# Altium integrated library TI_Logic_Specialty_Logic.IntLib: 2504 symbols (part 66 of 81)
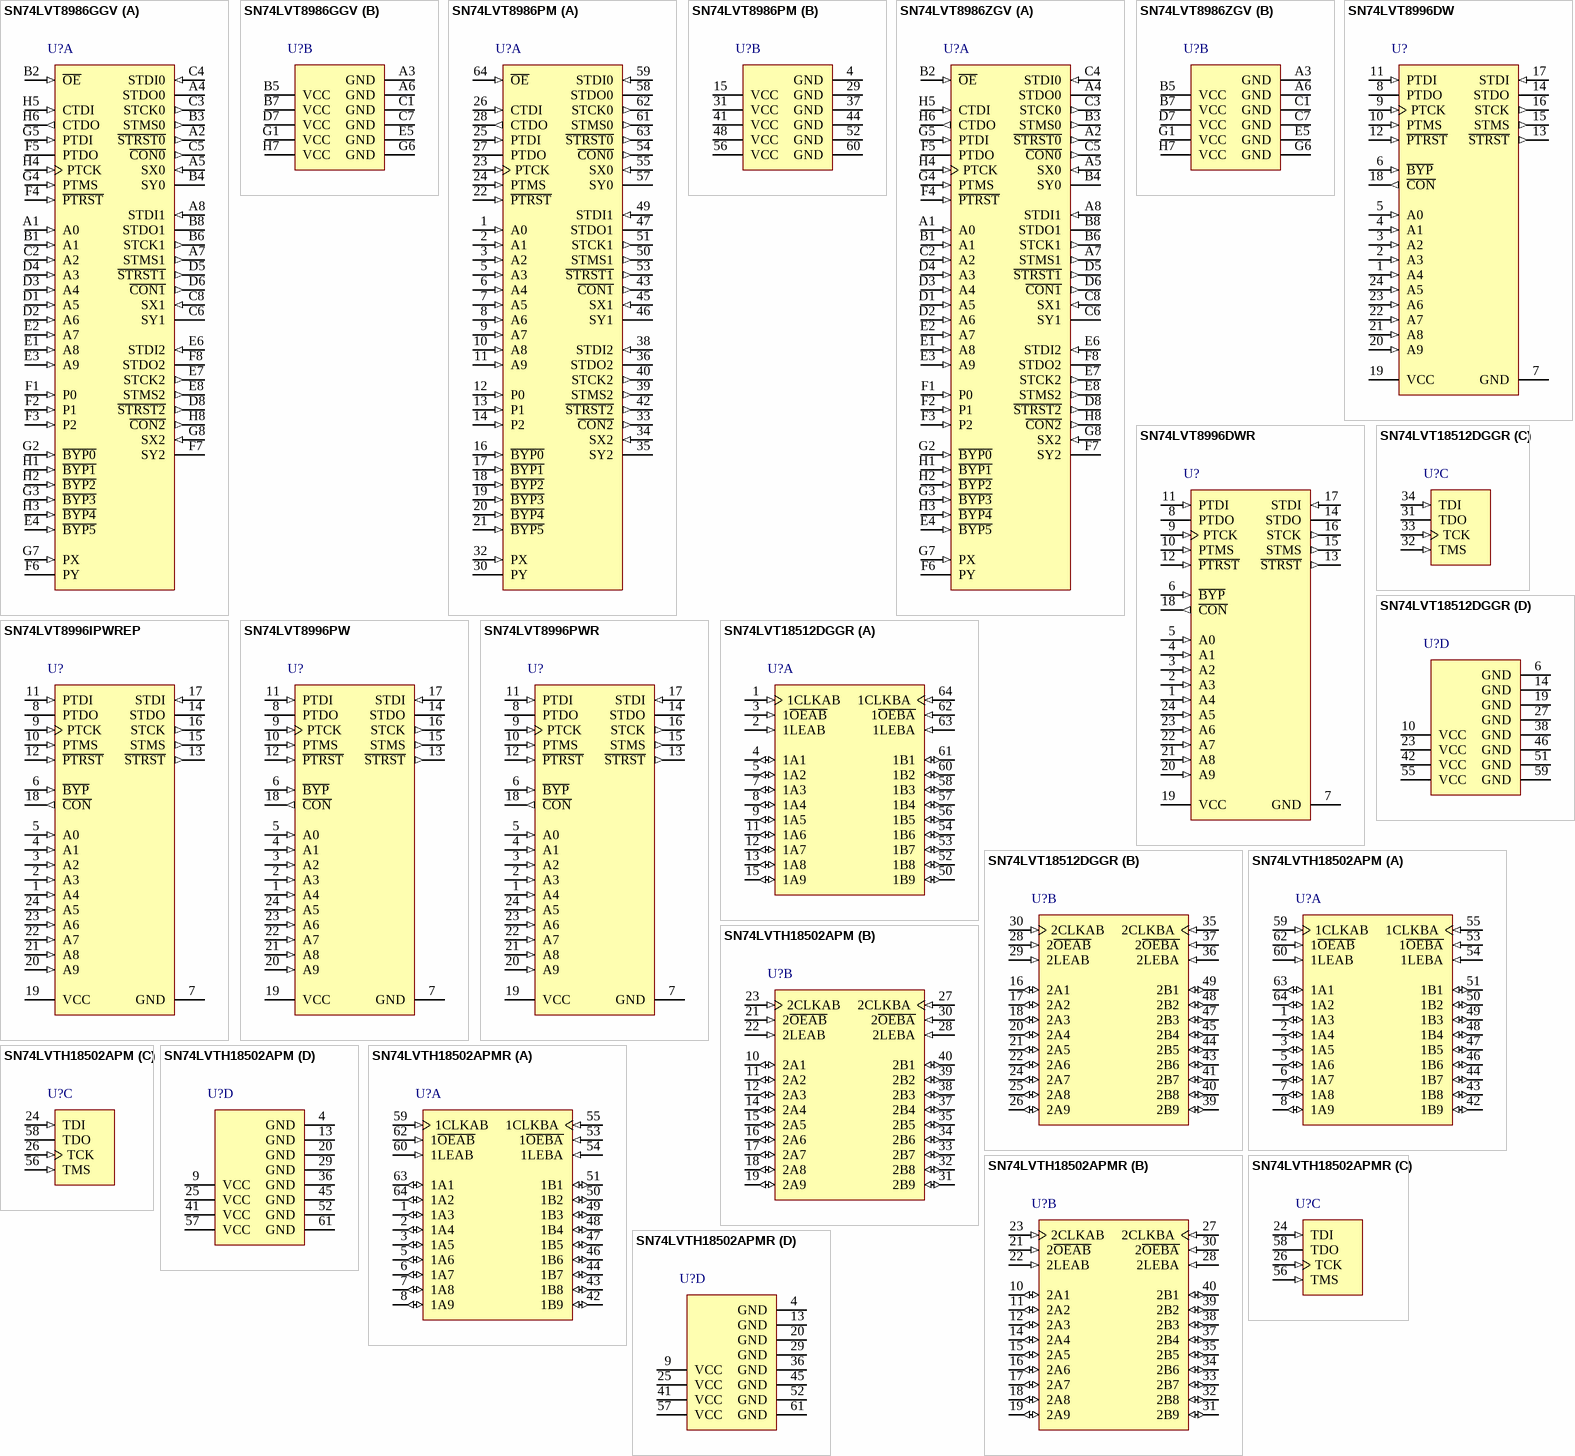
[diagram p169: symbols SN74LVT8986GGV to SN74LVTH18502APMR]

## SN74LVT8996DWR
designator U?
3.3-V ABT 10-Bit Addressable Scan Ports Multidrop-Addressable IEEE STD 1149.1 (JTAG) TAP Transceiver, DW0024A, LARGE T&R; Generic Part Number: SN74LVT8996; Manufacturer: Texas Instruments; PartNumber: SN74LVT8996DWR; VCC(Min)(V): 2.7; VCC(Max)(V): 3.6; Output Type: LVTTL; ICC @ Nom Voltage(Max)(mA): 20; Input Type: TTL/CMOS; Bits(#): 10; Rating: Catalog; Technology Family: LVT; Output Drive (IOL/IOH)(Max)(mA): 64/-32; Output Logic: True; DatasheetVersion: SCBS686A; PackageReference: DW0024A; Supplier 1: Mouser; Supplier Part Number 1: 595-SN74LVT8996DWR; Supplier 2: Digi-Key; Supplier Part Number 2: 296-8656-2-ND; Supplier 3: Digi-Key; Supplier Part Number 3: 296-8656-1-ND; Supplier 4: Digi-Key; Supplier Part Number 4: 296-8656-6-ND; Operating Temperature Range(C): -40 to 85; ComponentLink1Description: Manufacturer URL; ComponentLink1URL: http://www.ti.com/; ComponentLink2Description: Datasheet; ComponentLink2URL: http://www.ti.com/lit/ds/symlink/sn74lvt8996.pdf
footprint DW0024A_N (SOIC, 24-Leads, Body 15.6x7.6mm, Pitch 1.27mm, IPC Medium Density)
footprint DW0024A_M (SOIC, 24-Leads, Body 15.6x7.6mm, Pitch 1.27mm, IPC Low Density)
footprint DW0024A_L (SOIC, 24-Leads, Body 15.6x7.6mm, Pitch 1.27mm, IPC High Density)
pins: 1 A4 (in) "Address inputs. The ASP compares addresses received via shadow protocol against the value at A9-A0 to determine address match. The bit order is from most significant to least significant. An internal pullup at each A9-A0 (See Datasheet)", 2 A3 (in) "Address inputs. The ASP compares addresses received via shadow protocol against the value at A9-A0 to determine address match. The bit order is from most significant to least significant. An internal pullup at each A9-A0 (See Datasheet)", 3 A2 (in) "Address inputs. The ASP compares addresses received via shadow protocol against the value at A9-A0 to determine address match. The bit order is from most significant to least significant. An internal pullup at each A9-A0 (See Datasheet)", 4 A1 (in) "Address inputs. The ASP compares addresses received via shadow protocol against the value at A9-A0 to determine address match. The bit order is from most significant to least significant. An internal pullup at each A9-A0 (See Datasheet)", 5 A0 (in) "Address inputs. The ASP compares addresses received via shadow protocol against the value at A9-A0 to determine address match. The bit order is from most significant to least significant. An internal pullup at each A9-A0 (See Datasheet)", 6 ~{BYP} (in) "Bypass input. A low input at B\Y\P\ forces the ASP into BYP or BYP/TRST status, depending on P\T\R\S\T\ being high or low, respectively. While B\Y\P\ is low, shadow protocols are ignored. Otherwise, while B\Y\P\ is high, the (See Datasheet)", 7 GND (power) "Ground", 8 PTDO (hiz) "Primary test data output. PTDO transmits the TDO signal required by IEEE Standard 1149.1-1990. During shadow protocols, the ASP transmits any required acknowledgement via the PTDO. The acknowledgement data output at PTDO (See Datasheet)", 9 PTCK (in) "Primary test clock. PTCK receives the TCK signal required by IEEE Standard 1149.1-1990. The ASP always buffers PTCK to STCK. Shadow protocols are received/acknowledged synchronously to PTCK and connect-status changes invoked (See Datasheet)", 10 PTMS (in) "Primary test mode select. PTMS receives the TMS signal required by IEEE Standard 1149.1-1990. The ASP monitors the PTMS to determine the TAP-controller state. During stable TAP states other than Shift-DR or Shift-IR (i.e.(See Datasheet)", 11 PTDI (in) "Primary test data input. PTDI receives the TDI signal required by IEEE Standard 1149.1-1990. During appropriate TAP states, the ASP monitors PTDI for shadow protocols. During shadow protocols, data at PTDI is captured on the (See Datasheet)", 12 ~{PTRST} (in) "Primary test reset. P\T\R\S\T\ receives the T\R\S\T\ signal allowed by IEEE Standard 1149.1-1990. The ASP always buffers P\T\R\S\T\ to S\T\R\S\T\. A low input at PTRST forces the ASP to assume TRST or BYP/TRST status, (See Datasheet)", 13 ~{STRST} (out) "Secondary test reset. S\T\R\S\T\ retransmits the T\R\S\T\ signal allowed by IEEE Standard 1149.1-1990. The ASP always buffers S\T\R\S\T\ from P\T\R\S\T\.", 14 STDO (hiz) "Secondary test data output. STDO transmits the TDO signal required by IEEE Standard 1149.1-1990. Under BYP,BYP/TRST, MULTICAST, or ON status, the ASP buffers STDO from PTDI. Under OFF, RESET, or TRST status, STDO is at high (See Datasheet)", 15 STMS (out) "Secondary test mode select. STMS retransmits the TMS signal required by IEEE Standard 1149.1-1990. Under BYP,MULTICAST, or ON status, the ASP buffers STMS from PTMS. When disconnected (as a result of OFF status), STMS (See Datasheet)", 16 STCK (out) "Secondary test clock. STCK retransmits the TCK signal required by IEEE Standard 1149.1-1990. The ASP always buffers STCK from PTCK.", 17 STDI (in) "Secondary test data input. STDI receives the TDI signal required by IEEE Standard 1149.1-1990. Under BYP,BYP/TRST, or ON status, the ASP buffers STDI to PTDO. An internal pullup forces STDI to a high level if it has no (See Datasheet)", 18 ~{CON} (out) "Connect indicator (output). The ASP indicates secondary-scan-port activity (resulting from BYP, BYP/TRST,MULTICAST, or ON status) by forcing CON to be low. Inactivity (resulting from OFF, RESET, or TRST status) is indicated (See Datasheet)", 19 VCC (power) "Supply voltage", 20 A9 (in) "Address inputs. The ASP compares addresses received via shadow protocol against the value at A9-A0 to determine address match. The bit order is from most significant to least significant. An internal pullup at each A9-A0 (See Datasheet)", 21 A8 (in) "Address inputs. The ASP compares addresses received via shadow protocol against the value at A9-A0 to determine address match. The bit order is from most significant to least significant. An internal pullup at each A9-A0 (See Datasheet)", 22 A7 (in) "Address inputs. The ASP compares addresses received via shadow protocol against the value at A9-A0 to determine address match. The bit order is from most significant to least significant. An internal pullup at each A9-A0 (See Datasheet)", 23 A6 (in) "Address inputs. The ASP compares addresses received via shadow protocol against the value at A9-A0 to determine address match. The bit order is from most significant to least significant. An internal pullup at each A9-A0 (See Datasheet)", 24 A5 (in) "Address inputs. The ASP compares addresses received via shadow protocol against the value at A9-A0 to determine address match. The bit order is from most significant to least significant. An internal pullup at each A9-A0 (See Datasheet)"

## SN74LVT8996IPWREP
designator U?
Enhanced Product 3.3-V Abt 10-Bit Multidrop-Addressable Ieee Std 1149.1 Tap Transceiver, PW0024A, LARGE T&R; Generic Part Number: SN74LVT8996-EP; Manufacturer: Texas Instruments; PartNumber: SN74LVT8996IPWREP; VCC(Min)(V): 2.7; VCC(Max)(V): 3.6; Output Type: LVTTL; Input Type: TTL/CMOS; Bits(#): 10; Rating: HiRel Enhanced Product; Technology Family: LVT; Output Drive (IOL/IOH)(Max)(mA): 64/-32; DatasheetVersion: SCBS764; PackageReference: PW0024A; Supplier 1: Mouser; Supplier Part Number 1: 595-N74LVT8996IPWREP; Supplier 2: Digi-Key; Supplier Part Number 2: 296-22385-2-ND; Supplier 3: Digi-Key; Supplier Part Number 3: 296-22385-1-ND; Supplier 4: Digi-Key; Supplier Part Number 4: 296-22385-6-ND; Operating Temperature Range(C): -40 to 85; ComponentLink1Description: Manufacturer URL; ComponentLink1URL: http://www.ti.com/; ComponentLink2Description: Datasheet; ComponentLink2URL: http://www.ti.com/lit/ds/symlink/sn74lvt8996-ep.pdf
footprint PW0024A_N (SOP, 24-Leads, Body 7.9x4.5mm, Pitch 0.65mm, IPC Medium Density)
footprint PW0024A_M (SOP, 24-Leads, Body 7.9x4.5mm, Pitch 0.65mm, IPC Low Density)
footprint PW0024A_L (SOP, 24-Leads, Body 7.9x4.5mm, Pitch 0.65mm, IPC High Density)
pins: 1 A4 (in) "Address inputs. The ASP compares addresses received via shadow protocol against the value at A9-A0 to determine address match. The bit order is from most significant to least significant. An internal pullup at each A9-A0 (See Datasheet)", 2 A3 (in) "Address inputs. The ASP compares addresses received via shadow protocol against the value at A9-A0 to determine address match. The bit order is from most significant to least significant. An internal pullup at each A9-A0 (See Datasheet)", 3 A2 (in) "Address inputs. The ASP compares addresses received via shadow protocol against the value at A9-A0 to determine address match. The bit order is from most significant to least significant. An internal pullup at each A9-A0 (See Datasheet)", 4 A1 (in) "Address inputs. The ASP compares addresses received via shadow protocol against the value at A9-A0 to determine address match. The bit order is from most significant to least significant. An internal pullup at each A9-A0 (See Datasheet)", 5 A0 (in) "Address inputs. The ASP compares addresses received via shadow protocol against the value at A9-A0 to determine address match. The bit order is from most significant to least significant. An internal pullup at each A9-A0 (See Datasheet)", 6 ~{BYP} (in) "Bypass input. A low input at B\Y\P\ forces the ASP into BYP or BYP/TRST status, depending on P\T\R\S\T\ being high or low, respectively. While B\Y\P\ is low, shadow protocols are ignored. Otherwise, while B\Y\P\ is high, the (See Datasheet)", 7 GND (power) "Ground", 8 PTDO (hiz) "Primary test data output. PTDO transmits the TDO signal required by IEEE Standard 1149.1-1990. During shadow protocols, the ASP transmits any required acknowledgement via the PTDO. The acknowledgement data output at PTDO (See Datasheet)", 9 PTCK (in) "Primary test clock. PTCK receives the TCK signal required by IEEE Standard 1149.1-1990. The ASP always buffers PTCK to STCK. Shadow protocols are received/acknowledged synchronously to PTCK and connect-status changes invoked (See Datasheet)", 10 PTMS (in) "Primary test mode select. PTMS receives the TMS signal required by IEEE Standard 1149.1-1990. The ASP monitors the PTMS to determine the TAP-controller state. During stable TAP states other than Shift-DR or Shift-IR (i.e.(See Datasheet)", 11 PTDI (in) "Primary test data input. PTDI receives the TDI signal required by IEEE Standard 1149.1-1990. During appropriate TAP states, the ASP monitors PTDI for shadow protocols. During shadow protocols, data at PTDI is captured on the (See Datasheet)", 12 ~{PTRST} (in) "Primary test reset. P\T\R\S\T\ receives the T\R\S\T\ signal allowed by IEEE Standard 1149.1-1990. The ASP always buffers P\T\R\S\T\ to S\T\R\S\T\. A low input at PTRST forces the ASP to assume TRST or BYP/TRST status, (See Datasheet)", 13 ~{STRST} (out) "Secondary test reset. S\T\R\S\T\ retransmits the T\R\S\T\ signal allowed by IEEE Standard 1149.1-1990. The ASP always buffers S\T\R\S\T\ from P\T\R\S\T\.", 14 STDO (hiz) "Secondary test data output. STDO transmits the TDO signal required by IEEE Standard 1149.1-1990. Under BYP,BYP/TRST, MULTICAST, or ON status, the ASP buffers STDO from PTDI. Under OFF, RESET, or TRST status, STDO is at high (See Datasheet)", 15 STMS (out) "Secondary test mode select. STMS retransmits the TMS signal required by IEEE Standard 1149.1-1990. Under BYP,MULTICAST, or ON status, the ASP buffers STMS from PTMS. When disconnected (as a result of OFF status), STMS (See Datasheet)", 16 STCK (out) "Secondary test clock. STCK retransmits the TCK signal required by IEEE Standard 1149.1-1990. The ASP always buffers STCK from PTCK.", 17 STDI (in) "Secondary test data input. STDI receives the TDI signal required by IEEE Standard 1149.1-1990. Under BYP,BYP/TRST, or ON status, the ASP buffers STDI to PTDO. An internal pullup forces STDI to a high level if it has no (See Datasheet)", 18 ~{CON} (out) "Connect indicator (output). The ASP indicates secondary-scan-port activity (resulting from BYP, BYP/TRST,MULTICAST, or ON status) by forcing CON to be low. Inactivity (resulting from OFF, RESET, or TRST status) is indicated (See Datasheet)", 19 VCC (power) "Supply voltage", 20 A9 (in) "Address inputs. The ASP compares addresses received via shadow protocol against the value at A9-A0 to determine address match. The bit order is from most significant to least significant. An internal pullup at each A9-A0 (See Datasheet)", 21 A8 (in) "Address inputs. The ASP compares addresses received via shadow protocol against the value at A9-A0 to determine address match. The bit order is from most significant to least significant. An internal pullup at each A9-A0 (See Datasheet)", 22 A7 (in) "Address inputs. The ASP compares addresses received via shadow protocol against the value at A9-A0 to determine address match. The bit order is from most significant to least significant. An internal pullup at each A9-A0 (See Datasheet)", 23 A6 (in) "Address inputs. The ASP compares addresses received via shadow protocol against the value at A9-A0 to determine address match. The bit order is from most significant to least significant. An internal pullup at each A9-A0 (See Datasheet)", 24 A5 (in) "Address inputs. The ASP compares addresses received via shadow protocol against the value at A9-A0 to determine address match. The bit order is from most significant to least significant. An internal pullup at each A9-A0 (See Datasheet)"

## SN74LVT8996PW
designator U?
3.3-V ABT 10-Bit Addressable Scan Ports Multidrop-Addressable IEEE STD 1149.1 (JTAG) TAP Transceiver, PW0024A, TUBE; Generic Part Number: SN74LVT8996; Manufacturer: Texas Instruments; PartNumber: SN74LVT8996PW; VCC(Min)(V): 2.7; VCC(Max)(V): 3.6; Output Type: LVTTL; ICC @ Nom Voltage(Max)(mA): 20; Input Type: TTL/CMOS; Bits(#): 10; Rating: Catalog; Technology Family: LVT; Output Drive (IOL/IOH)(Max)(mA): 64/-32; Output Logic: True; DatasheetVersion: SCBS686A; PackageReference: PW0024A; Supplier 1: Mouser; Supplier Part Number 1: 595-SN74LVT8996PW; Supplier 2: Digi-Key; Supplier Part Number 2: 296-8657-5-ND; Operating Temperature Range(C): -40 to 85; ComponentLink1Description: Manufacturer URL; ComponentLink1URL: http://www.ti.com/; ComponentLink2Description: Datasheet; ComponentLink2URL: http://www.ti.com/lit/ds/symlink/sn74lvt8996.pdf
footprint PW0024A_N (SOP, 24-Leads, Body 7.9x4.5mm, Pitch 0.65mm, IPC Medium Density)
footprint PW0024A_M (SOP, 24-Leads, Body 7.9x4.5mm, Pitch 0.65mm, IPC Low Density)
footprint PW0024A_L (SOP, 24-Leads, Body 7.9x4.5mm, Pitch 0.65mm, IPC High Density)
pins: 1 A4 (in) "Address inputs. The ASP compares addresses received via shadow protocol against the value at A9-A0 to determine address match. The bit order is from most significant to least significant. An internal pullup at each A9-A0 (See Datasheet)", 2 A3 (in) "Address inputs. The ASP compares addresses received via shadow protocol against the value at A9-A0 to determine address match. The bit order is from most significant to least significant. An internal pullup at each A9-A0 (See Datasheet)", 3 A2 (in) "Address inputs. The ASP compares addresses received via shadow protocol against the value at A9-A0 to determine address match. The bit order is from most significant to least significant. An internal pullup at each A9-A0 (See Datasheet)", 4 A1 (in) "Address inputs. The ASP compares addresses received via shadow protocol against the value at A9-A0 to determine address match. The bit order is from most significant to least significant. An internal pullup at each A9-A0 (See Datasheet)", 5 A0 (in) "Address inputs. The ASP compares addresses received via shadow protocol against the value at A9-A0 to determine address match. The bit order is from most significant to least significant. An internal pullup at each A9-A0 (See Datasheet)", 6 ~{BYP} (in) "Bypass input. A low input at B\Y\P\ forces the ASP into BYP or BYP/TRST status, depending on P\T\R\S\T\ being high or low,respectively. While B\Y\P\ is low, shadow protocols are ignored. Otherwise, while B\Y\P\ is high, the (See Datasheet)", 7 GND (power) "Ground", 8 PTDO (hiz) "Primary test data output. PTDO transmits the TDO signal required by IEEE Std 1149.1-1990. During shadow protocols, the ASP transmits any required acknowledgment via the PTDO. The acknowledgment data output at PTDO changes on (See Datasheet)", 9 PTCK (in) "Primary test clock. PTCK receives the TCK signal required by IEEE Std 1149.1-1990. The ASP always buffers PTCK to STCK.Shadow protocols are received/acknowledged synchronously to PTCK and connect-status changes invoked by (See Datasheet)", 10 PTMS (in) "Primary test mode select. PTMS receives the TMS signal required by IEEE Std 1149.1-1990. The ASP monitors the PTMS to determine the TAP-controller state. During stable TAP states other than Shift-DR or Shift-IR (i.e., (See Datasheet)", 11 PTDI (in) "Primary test data input. PTDI receives the TDI signal required by IEEE Std 1149.1-1990. During appropriate TAP states, the ASP monitors PTDI for shadow protocols. During shadow protocols, data at PTDI is captured on the (See Datasheet)", 12 ~{PTRST} (in) "Primary test reset. P\T\R\S\T\ receives the T\R\S\T\ signal allowed by IEEE Std 1149.1-1990. The ASP always buffers P\T\R\S\T\ to S\T\R\S\T\. A low input at PTRST forces the ASP to assume TRST or BYP/TRST status, depending (See Datasheet)", 13 ~{STRST} (out) "Secondary test reset. S\T\R\S\T\ retransmits the T\R\S\T\ signal allowed by IEEE Std 1149.1-1990. The ASP always buffers S\T\R\S\T\ from P\T\R\S\T\.", 14 STDO (hiz) "Secondary test data output. STDO transmits the TDO signal required by IEEE Std 1149.1-1990. Under BYP, BYP/TRST,MULTICAST, or ON status, the ASP buffers STDO from PTDI. Under OFF, RESET, or TRST status, STDO is at high (See Datasheet)", 15 STMS (out) "Secondary test mode select. STMS retransmits the TMS signal required by IEEE Std 1149.1-1990. Under BYP, MULTICAST,or ON status, the ASP buffers STMS from PTMS. When disconnected (as a result of OFF status), STMS maintains (See Datasheet)", 16 STCK (out) "Secondary test clock. STCK retransmits the TCK signal required by IEEE Std 1149.1-1990. The ASP always buffers STCK from PTCK.", 17 STDI (in) "Secondary test data input. STDI receives the TDI signal required by IEEE Std 1149.1-1990. Under BYP, BYP/TRST, or ON status, the ASP buffers STDI to PTDO. An internal pullup forces STDI to a high level if it has no external (See Datasheet)", 18 ~{CON} (out) "Connect indicator (output). The ASP indicates secondary-scan-port activity (resulting from BYP, BYP/TRST, MULTICAST, or ON status) by forcing C\O\N\ to be low. Inactivity (resulting from OFF, RESET, or TRST status) is (See Datasheet)", 19 VCC (power) "Supply voltage", 20 A9 (in) "Address inputs. The ASP compares addresses received via shadow protocol against the value at A9-A0 to determine address match. The bit order is from most significant to least significant. An internal pullup at each A9-A0 (See Datasheet)", 21 A8 (in) "Address inputs. The ASP compares addresses received via shadow protocol against the value at A9-A0 to determine address match. The bit order is from most significant to least significant. An internal pullup at each A9-A0 (See Datasheet)", 22 A7 (in) "Address inputs. The ASP compares addresses received via shadow protocol against the value at A9-A0 to determine address match. The bit order is from most significant to least significant. An internal pullup at each A9-A0 (See Datasheet)", 23 A6 (in) "Address inputs. The ASP compares addresses received via shadow protocol against the value at A9-A0 to determine address match. The bit order is from most significant to least significant. An internal pullup at each A9-A0 (See Datasheet)", 24 A5 (in) "Address inputs. The ASP compares addresses received via shadow protocol against the value at A9-A0 to determine address match. The bit order is from most significant to least significant. An internal pullup at each A9-A0 (See Datasheet)"

## SN74LVT8996PWR
designator U?
3.3-V ABT 10-Bit Addressable Scan Ports Multidrop-Addressable IEEE STD 1149.1 (JTAG) TAP Transceiver, PW0024A, LARGE T&R; Generic Part Number: SN74LVT8996; Manufacturer: Texas Instruments; PartNumber: SN74LVT8996PWR; VCC(Min)(V): 2.7; VCC(Max)(V): 3.6; Output Type: LVTTL; ICC @ Nom Voltage(Max)(mA): 20; Input Type: TTL/CMOS; Bits(#): 10; Rating: Catalog; Technology Family: LVT; Output Drive (IOL/IOH)(Max)(mA): 64/-32; Output Logic: True; DatasheetVersion: SCBS686A; PackageReference: PW0024A; Supplier 1: Mouser; Supplier Part Number 1: 595-SN74LVT8996PWR; Supplier 2: Digi-Key; Supplier Part Number 2: 296-8657-2-ND; Supplier 3: Digi-Key; Supplier Part Number 3: 296-8657-1-ND; Supplier 4: Digi-Key; Supplier Part Number 4: 296-8657-6-ND; Operating Temperature Range(C): -40 to 85; ComponentLink1Description: Manufacturer URL; ComponentLink1URL: http://www.ti.com/; ComponentLink2Description: Datasheet; ComponentLink2URL: http://www.ti.com/lit/ds/symlink/sn74lvt8996.pdf
footprint PW0024A_N (SOP, 24-Leads, Body 7.9x4.5mm, Pitch 0.65mm, IPC Medium Density)
footprint PW0024A_M (SOP, 24-Leads, Body 7.9x4.5mm, Pitch 0.65mm, IPC Low Density)
footprint PW0024A_L (SOP, 24-Leads, Body 7.9x4.5mm, Pitch 0.65mm, IPC High Density)
pins: 1 A4 (in) "Address inputs. The ASP compares addresses received via shadow protocol against the value at A9-A0 to determine address match. The bit order is from most significant to least significant. An internal pullup at each A9-A0 (See Datasheet)", 2 A3 (in) "Address inputs. The ASP compares addresses received via shadow protocol against the value at A9-A0 to determine address match. The bit order is from most significant to least significant. An internal pullup at each A9-A0 (See Datasheet)", 3 A2 (in) "Address inputs. The ASP compares addresses received via shadow protocol against the value at A9-A0 to determine address match. The bit order is from most significant to least significant. An internal pullup at each A9-A0 (See Datasheet)", 4 A1 (in) "Address inputs. The ASP compares addresses received via shadow protocol against the value at A9-A0 to determine address match. The bit order is from most significant to least significant. An internal pullup at each A9-A0 (See Datasheet)", 5 A0 (in) "Address inputs. The ASP compares addresses received via shadow protocol against the value at A9-A0 to determine address match. The bit order is from most significant to least significant. An internal pullup at each A9-A0 (See Datasheet)", 6 ~{BYP} (in) "Bypass input. A low input at B\Y\P\ forces the ASP into BYP or BYP/TRST status, depending on P\T\R\S\T\ being high or low,respectively. While B\Y\P\ is low, shadow protocols are ignored. Otherwise, while B\Y\P\ is high, the (See Datasheet)", 7 GND (power) "Ground", 8 PTDO (hiz) "Primary test data output. PTDO transmits the TDO signal required by IEEE Std 1149.1-1990. During shadow protocols, the ASP transmits any required acknowledgment via the PTDO. The acknowledgment data output at PTDO changes on (See Datasheet)", 9 PTCK (in) "Primary test clock. PTCK receives the TCK signal required by IEEE Std 1149.1-1990. The ASP always buffers PTCK to STCK.Shadow protocols are received/acknowledged synchronously to PTCK and connect-status changes invoked by (See Datasheet)", 10 PTMS (in) "Primary test mode select. PTMS receives the TMS signal required by IEEE Std 1149.1-1990. The ASP monitors the PTMS to determine the TAP-controller state. During stable TAP states other than Shift-DR or Shift-IR (i.e., (See Datasheet)", 11 PTDI (in) "Primary test data input. PTDI receives the TDI signal required by IEEE Std 1149.1-1990. During appropriate TAP states, the ASP monitors PTDI for shadow protocols. During shadow protocols, data at PTDI is captured on the (See Datasheet)", 12 ~{PTRST} (in) "Primary test reset. P\T\R\S\T\ receives the T\R\S\T\ signal allowed by IEEE Std 1149.1-1990. The ASP always buffers P\T\R\S\T\ to S\T\R\S\T\. A low input at PTRST forces the ASP to assume TRST or BYP/TRST status, depending (See Datasheet)", 13 ~{STRST} (out) "Secondary test reset. S\T\R\S\T\ retransmits the T\R\S\T\ signal allowed by IEEE Std 1149.1-1990. The ASP always buffers S\T\R\S\T\ from P\T\R\S\T\.", 14 STDO (hiz) "Secondary test data output. STDO transmits the TDO signal required by IEEE Std 1149.1-1990. Under BYP, BYP/TRST,MULTICAST, or ON status, the ASP buffers STDO from PTDI. Under OFF, RESET, or TRST status, STDO is at high (See Datasheet)", 15 STMS (out) "Secondary test mode select. STMS retransmits the TMS signal required by IEEE Std 1149.1-1990. Under BYP, MULTICAST,or ON status, the ASP buffers STMS from PTMS. When disconnected (as a result of OFF status), STMS maintains (See Datasheet)", 16 STCK (out) "Secondary test clock. STCK retransmits the TCK signal required by IEEE Std 1149.1-1990. The ASP always buffers STCK from PTCK.", 17 STDI (in) "Secondary test data input. STDI receives the TDI signal required by IEEE Std 1149.1-1990. Under BYP, BYP/TRST, or ON status, the ASP buffers STDI to PTDO. An internal pullup forces STDI to a high level if it has no external (See Datasheet)", 18 ~{CON} (out) "Connect indicator (output). The ASP indicates secondary-scan-port activity (resulting from BYP, BYP/TRST, MULTICAST, or ON status) by forcing C\O\N\ to be low. Inactivity (resulting from OFF, RESET, or TRST status) is (See Datasheet)", 19 VCC (power) "Supply voltage", 20 A9 (in) "Address inputs. The ASP compares addresses received via shadow protocol against the value at A9-A0 to determine address match. The bit order is from most significant to least significant. An internal pullup at each A9-A0 (See Datasheet)", 21 A8 (in) "Address inputs. The ASP compares addresses received via shadow protocol against the value at A9-A0 to determine address match. The bit order is from most significant to least significant. An internal pullup at each A9-A0 (See Datasheet)", 22 A7 (in) "Address inputs. The ASP compares addresses received via shadow protocol against the value at A9-A0 to determine address match. The bit order is from most significant to least significant. An internal pullup at each A9-A0 (See Datasheet)", 23 A6 (in) "Address inputs. The ASP compares addresses received via shadow protocol against the value at A9-A0 to determine address match. The bit order is from most significant to least significant. An internal pullup at each A9-A0 (See Datasheet)", 24 A5 (in) "Address inputs. The ASP compares addresses received via shadow protocol against the value at A9-A0 to determine address match. The bit order is from most significant to least significant. An internal pullup at each A9-A0 (See Datasheet)"

## SN74LVT18512DGGR
designator U?
3.3-V ABT Scan Test Devices With 18-Bit Universal Bus Transceivers, DGG0064A, LARGE T&R; Generic Part Number: SN74LVT18512; Manufacturer: Texas Instruments; PartNumber: SN74LVT18512DGGR; VCC(Min)(V): 2.7; VCC(Max)(V): 3.6; Output Type: TTL; ICC @ Nom Voltage(Max)(mA): 24; Bits(#): 18; F @ Nom Voltage(Max)(Mhz): 160; Rating: Catalog; Technology Family: LVT; Voltage(Nom)(V): 3.3; Output Drive (IOL/IOH)(Max)(mA): 64/-32; Output Logic: True; tpd @ Nom Voltage(Max)(ns): 4.9; DatasheetVersion: SCBS711; PackageReference: DGG0064A; Supplier 1: Mouser; Supplier Part Number 1: 595-SN74LVT18512DGGR; Supplier 2: Digi-Key; Supplier Part Number 2: 296-8646-2-ND; Supplier 3: Digi-Key; Supplier Part Number 3: 296-8646-1-ND; Supplier 4: Digi-Key; Supplier Part Number 4: 296-8646-6-ND; Input Type: TTL; Operating Temperature Range(C): -40 to 85; ComponentLink1Description: Manufacturer URL; ComponentLink1URL: http://www.ti.com/; ComponentLink2Description: Datasheet; ComponentLink2URL: http://www.ti.com/lit/ds/symlink/sn74lvt18512.pdf
footprint DGG0064A_N (TSSOP, 64-Leads, Body 17.1x6.2mm, Pitch 0.5mm, IPC Medium Density)
footprint DGG0064A_M (TSSOP, 64-Leads, Body 17.1x6.2mm, Pitch 0.5mm, IPC Low Density)
footprint DGG0064A_L (TSSOP, 64-Leads, Body 17.1x6.2mm, Pitch 0.5mm, IPC High Density)
part A pins: 1 1CLKAB (in) "Normal-function clock inputs. See function table for normal-mode logic.", 2 1LEAB (in) "Normal-function latch enables. See function table for normal-mode logic.", 3 1~{OEAB} (in) "Normal-function output enables. See function table for normal-mode logic. An internal pullup at each terminal forces the terminal to a high level if left unconnected.", 4 1A1 (io) "Normal-function A-bus I/O ports. See function table for normal-mode logic.", 5 1A2 (io) "Normal-function A-bus I/O ports. See function table for normal-mode logic.", 7 1A3 (io) "Normal-function A-bus I/O ports. See function table for normal-mode logic.", 8 1A4 (io) "Normal-function A-bus I/O ports. See function table for normal-mode logic.", 9 1A5 (io) "Normal-function A-bus I/O ports. See function table for normal-mode logic.", 11 1A6 (io) "Normal-function A-bus I/O ports. See function table for normal-mode logic.", 12 1A7 (io) "Normal-function A-bus I/O ports. See function table for normal-mode logic.", 13 1A8 (io) "Normal-function A-bus I/O ports. See function table for normal-mode logic.", 15 1A9 (io) "Normal-function A-bus I/O ports. See function table for normal-mode logic.", 50 1B9 (io) "Normal-function B-bus I/O ports. See function table for normal-mode logic.", 52 1B8 (io) "Normal-function B-bus I/O ports. See function table for normal-mode logic.", 53 1B7 (io) "Normal-function B-bus I/O ports. See function table for normal-mode logic.", 54 1B6 (io) "Normal-function B-bus I/O ports. See function table for normal-mode logic.", 56 1B5 (io) "Normal-function B-bus I/O ports. See function table for normal-mode logic.", 57 1B4 (io) "Normal-function B-bus I/O ports. See function table for normal-mode logic.", 58 1B3 (io) "Normal-function B-bus I/O ports. See function table for normal-mode logic.", 60 1B2 (io) "Normal-function B-bus I/O ports. See function table for normal-mode logic.", 61 1B1 (io) "Normal-function B-bus I/O ports. See function table for normal-mode logic.", 62 1~{OEBA} (in) "Normal-function output enables. See function table for normal-mode logic. An internal pullup at each terminal forces the terminal to a high level if left unconnected.", 63 1LEBA (in) "Normal-function latch enables. See function table for normal-mode logic.", 64 1CLKBA (in) "Normal-function clock inputs. See function table for normal-mode logic."
part B pins: 16 2A1 (io) "Normal-function A-bus I/O ports. See function table for normal-mode logic.", 17 2A2 (io) "Normal-function A-bus I/O ports. See function table for normal-mode logic.", 18 2A3 (io) "Normal-function A-bus I/O ports. See function table for normal-mode logic.", 20 2A4 (io) "Normal-function A-bus I/O ports. See function table for normal-mode logic.", 21 2A5 (io) "Normal-function A-bus I/O ports. See function table for normal-mode logic.", 22 2A6 (io) "Normal-function A-bus I/O ports. See function table for normal-mode logic.", 24 2A7 (io) "Normal-function A-bus I/O ports. See function table for normal-mode logic.", 25 2A8 (io) "Normal-function A-bus I/O ports. See function table for normal-mode logic.", 26 2A9 (io) "Normal-function A-bus I/O ports. See function table for normal-mode logic.", 28 2~{OEAB} (in) "Normal-function output enables. See function table for normal-mode logic. An internal pullup at each terminal forces the terminal to a high level if left unconnected.", 29 2LEAB (in) "Normal-function latch enables. See function table for normal-mode logic.", 30 2CLKAB (in) "Normal-function clock inputs. See function table for normal-mode logic.", 35 2CLKBA (in) "Normal-function clock inputs. See function table for normal-mode logic.", 36 2LEBA (in) "Normal-function latch enables. See function table for normal-mode logic.", 37 2~{OEBA} (in) "Normal-function output enables. See function table for normal-mode logic. An internal pullup at each terminal forces the terminal to a high level if left unconnected.", 39 2B9 (io) "Normal-function B-bus I/O ports. See function table for normal-mode logic.", 40 2B8 (io) "Normal-function B-bus I/O ports. See function table for normal-mode logic.", 41 2B7 (io) "Normal-function B-bus I/O ports. See function table for normal-mode logic.", 43 2B6 (io) "Normal-function B-bus I/O ports. See function table for normal-mode logic.", 44 2B5 (io) "Normal-function B-bus I/O ports. See function table for normal-mode logic.", 45 2B4 (io) "Normal-function B-bus I/O ports. See function table for normal-mode logic.", 47 2B3 (io) "Normal-function B-bus I/O ports. See function table for normal-mode logic.", 48 2B2 (io) "Normal-function B-bus I/O ports. See function table for normal-mode logic.", 49 2B1 (io) "Normal-function B-bus I/O ports. See function table for normal-mode logic."
part C pins: 31 TDO (hiz) "Test data output. One of four terminals required by IEEE Std 1149.1-1990. TDO is the serial output for shifting data through the instruction register or selected data register", 32 TMS (in) "Test mode select. One of four terminals required by IEEE Std 1149.1-1990. TMS directs the device through its TAP controller states. An internal pullup forces TMS to a high level if left unconnected.", 33 TCK (in) "Test clock. One of four terminals required by IEEE Std 1149.1-1990. Test operations of the device are synchronous to TCK. Data is captured on the rising edge of TCK and outputs change on the falling edge of TCK.", 34 TDI (in) "Test data input. One of four terminals required by IEEE Std 1149.1-1990. TDI is the serial input for shifting data through the instruction register or selected data register. An internal pullup forces TDI to a high level if (See Datasheet)"
part D pins: 6 GND (power) "Ground", 10 VCC (power) "Supply voltage", 14 GND (power) "Ground", 19 GND (power) "Ground", 23 VCC (power) "Supply voltage", 27 GND (power) "Ground", 38 GND (power) "Ground", 42 VCC (power) "Supply voltage", 46 GND (power) "Ground", 51 GND (power) "Ground", 55 VCC (power) "Supply voltage", 59 GND (power) "Ground"

## SN74LVTH18502APM
designator U?
3.3-V ABT Scan Test Devices With 18-Bit Universal Bus Transceivers, PM0064A, JEDEC TRAY (10+1); Generic Part Number: SN74LVTH18502A; Manufacturer: Texas Instruments; PartNumber: SN74LVTH18502APM; VCC(Min)(V): 2.7; VCC(Max)(V): 3.6; Output Type: TTL; ICC @ Nom Voltage(Max)(mA): 24; Bits(#): 18; F @ Nom Voltage(Max)(Mhz): 160; Rating: Catalog; Technology Family: LVT; Voltage(Nom)(V): 3.3; Output Drive (IOL/IOH)(Max)(mA): 64/-32; Output Logic: True; tpd @ Nom Voltage(Max)(ns): 4.9; DatasheetVersion: SCBS668C; PackageReference: PM0064A; Supplier 1: Mouser; Supplier Part Number 1: 595-SN74LVTH18502APM; Supplier 2: Digi-Key; Supplier Part Number 2: 296-8699-ND; Input Type: TTL; Operating Temperature Range(C): -40 to 85; ComponentLink1Description: Manufacturer URL; ComponentLink1URL: http://www.ti.com/; ComponentLink2Description: Datasheet; ComponentLink2URL: http://www.ti.com/lit/ds/symlink/sn74lvth18502a.pdf
footprint PM0064A_N (QFP, 64-Leads, Body 10x10mm, Pitch 0.5mm, IPC Medium Density)
footprint PM0064A_M (QFP, 64-Leads, Body 10x10mm, Pitch 0.5mm, IPC Low Density)
footprint PM0064A_L (QFP, 64-Leads, Body 10x10mm, Pitch 0.5mm, IPC High Density)
part A pins: 1 1A3 (io) "Normal-function A-bus I/O ports. See function table for normal-mode logic.", 2 1A4 (io) "Normal-function A-bus I/O ports. See function table for normal-mode logic.", 3 1A5 (io) "Normal-function A-bus I/O ports. See function table for normal-mode logic.", 5 1A6 (io) "Normal-function A-bus I/O ports. See function table for normal-mode logic.", 6 1A7 (io) "Normal-function A-bus I/O ports. See function table for normal-mode logic.", 7 1A8 (io) "Normal-function A-bus I/O ports. See function table for normal-mode logic.", 8 1A9 (io) "Normal-function A-bus I/O ports. See function table for normal-mode logic.", 42 1B9 (io) "Normal-function B-bus I/O ports. See function table for normal-mode logic.", 43 1B8 (io) "Normal-function B-bus I/O ports. See function table for normal-mode logic.", 44 1B7 (io) "Normal-function B-bus I/O ports. See function table for normal-mode logic.", 46 1B6 (io) "Normal-function B-bus I/O ports. See function table for normal-mode logic.", 47 1B5 (io) "Normal-function B-bus I/O ports. See function table for normal-mode logic.", 48 1B4 (io) "Normal-function B-bus I/O ports. See function table for normal-mode logic.", 49 1B3 (io) "Normal-function B-bus I/O ports. See function table for normal-mode logic.", 50 1B2 (io) "Normal-function B-bus I/O ports. See function table for normal-mode logic.", 51 1B1 (io) "Normal-function B-bus I/O ports. See function table for normal-mode logic.", 53 1~{OEBA} (in) "Normal-function output enables. See function table for normal-mode logic. An internal pullup at each terminal forces the terminal to a high level if left unconnected.", 54 1LEBA (in) "Normal-function latch enables. See function table for normal-mode logic.", 55 1CLKBA (in) "Normal-function clock inputs. See function table for normal-mode logic.", 59 1CLKAB (in) "Normal-function clock inputs. See function table for normal-mode logic.", 60 1LEAB (in) "Normal-function latch enables. See function table for normal-mode logic.", 62 1~{OEAB} (in) "Normal-function output enables. See function table for normal-mode logic. An internal pullup at each terminal forces the terminal to a high level if left unconnected.", 63 1A1 (io) "Normal-function A-bus I/O ports. See function table for normal-mode logic.", 64 1A2 (io) "Normal-function A-bus I/O ports. See function table for normal-mode logic."
part B pins: 10 2A1 (io) "Normal-function A-bus I/O ports. See function table for normal-mode logic.", 11 2A2 (io) "Normal-function A-bus I/O ports. See function table for normal-mode logic.", 12 2A3 (io) "Normal-function A-bus I/O ports. See function table for normal-mode logic.", 14 2A4 (io) "Normal-function A-bus I/O ports. See function table for normal-mode logic.", 15 2A5 (io) "Normal-function A-bus I/O ports. See function table for normal-mode logic.", 16 2A6 (io) "Normal-function A-bus I/O ports. See function table for normal-mode logic.", 17 2A7 (io) "Normal-function A-bus I/O ports. See function table for normal-mode logic.", 18 2A8 (io) "Normal-function A-bus I/O ports. See function table for normal-mode logic.", 19 2A9 (io) "Normal-function A-bus I/O ports. See function table for normal-mode logic.", 21 2~{OEAB} (in) "Normal-function output enables. See function table for normal-mode logic. An internal pullup at each terminal forces the terminal to a high level if left unconnected.", 22 2LEAB (in) "Normal-function latch enables. See function table for normal-mode logic.", 23 2CLKAB (in) "Normal-function clock inputs. See function table for normal-mode logic.", 27 2CLKBA (in) "Normal-function clock inputs. See function table for normal-mode logic.", 28 2LEBA (in) "Normal-function latch enables. See function table for normal-mode logic.", 30 2~{OEBA} (in) "Normal-function output enables. See function table for normal-mode logic. An internal pullup at each terminal forces the terminal to a high level if left unconnected.", 31 2B9 (io) "Normal-function B-bus I/O ports. See function table for normal-mode logic.", 32 2B8 (io) "Normal-function B-bus I/O ports. See function table for normal-mode logic.", 33 2B7 (io) "Normal-function B-bus I/O ports. See function table for normal-mode logic.", 34 2B6 (io) "Normal-function B-bus I/O ports. See function table for normal-mode logic.", 35 2B5 (io) "Normal-function B-bus I/O ports. See function table for normal-mode logic.", 37 2B4 (io) "Normal-function B-bus I/O ports. See function table for normal-mode logic.", 38 2B3 (io) "Normal-function B-bus I/O ports. See function table for normal-mode logic.", 39 2B2 (io) "Normal-function B-bus I/O ports. See function table for normal-mode logic.", 40 2B1 (io) "Normal-function B-bus I/O ports. See function table for normal-mode logic."
part C pins: 24 TDI (in) "Test data input. One of four terminals required by IEEE Standard 1149.1-1990. TDI is the serial input for shifting data through the instruction register or selected data register. An internal pullup forces TDI to a high (See Datasheet)", 26 TCK (in) "Test clock. One of four terminals required by IEEE Standard 1149.1-1990. Test operations of the device are synchronous to TCK. Data is captured on the rising edge of TCK and outputs change on the falling edge of TCK.", 56 TMS (in) "Test mode select. One of four terminals required by IEEE Standard 1149.1-1990. TMS directs the device through its TAP controller states. An internal pullup forces TMS to a high level if left unconnected.", 58 TDO (hiz) "Test data output. One of four terminals required by IEEE Standard 1149.1-1990. TDO is the serial output for shifting data through the instruction register or selected data register."
part D pins: 4 GND (power) "Ground", 9 VCC (power) "Supply voltage", 13 GND (power) "Ground", 20 GND (power) "Ground", 25 VCC (power) "Supply voltage", 29 GND (power) "Ground", 36 GND (power) "Ground", 41 VCC (power) "Supply voltage", 45 GND (power) "Ground", 52 GND (power) "Ground", 57 VCC (power) "Supply voltage", 61 GND (power) "Ground"

## SN74LVTH18502APMR
designator U?
3.3-V ABT Scan Test Devices With 18-Bit Universal Bus Transceivers, PM0064A, LARGE T&R; Generic Part Number: SN74LVTH18502A; Manufacturer: Texas Instruments; PartNumber: SN74LVTH18502APMR; VCC(Min)(V): 2.7; VCC(Max)(V): 3.6; Output Type: TTL; ICC @ Nom Voltage(Max)(mA): 24; Bits(#): 18; F @ Nom Voltage(Max)(Mhz): 160; Rating: Catalog; Technology Family: LVT; Voltage(Nom)(V): 3.3; Output Drive (IOL/IOH)(Max)(mA): 64/-32; Output Logic: True; tpd @ Nom Voltage(Max)(ns): 4.9; DatasheetVersion: SCBS668C; PackageReference: PM0064A; Supplier 1: Mouser; Supplier Part Number 1: 595-SN74LVTH18502AMR; Supplier 2: Digi-Key; Supplier Part Number 2: 296-14932-2-ND; Supplier 3: Digi-Key; Supplier Part Number 3: 296-14932-1-ND; Supplier 4: Digi-Key; Supplier Part Number 4: 296-14932-6-ND; Input Type: TTL; Operating Temperature Range(C): -40 to 85; ComponentLink1Description: Manufacturer URL; ComponentLink1URL: http://www.ti.com/; ComponentLink2Description: Datasheet; ComponentLink2URL: http://www.ti.com/lit/ds/symlink/sn74lvth18502a.pdf
footprint PM0064A_N (QFP, 64-Leads, Body 10x10mm, Pitch 0.5mm, IPC Medium Density)
footprint PM0064A_M (QFP, 64-Leads, Body 10x10mm, Pitch 0.5mm, IPC Low Density)
footprint PM0064A_L (QFP, 64-Leads, Body 10x10mm, Pitch 0.5mm, IPC High Density)
part A pins: 1 1A3 (io) "Normal-function A-bus I/O ports. See function table for normal-mode logic.", 2 1A4 (io) "Normal-function A-bus I/O ports. See function table for normal-mode logic.", 3 1A5 (io) "Normal-function A-bus I/O ports. See function table for normal-mode logic.", 5 1A6 (io) "Normal-function A-bus I/O ports. See function table for normal-mode logic.", 6 1A7 (io) "Normal-function A-bus I/O ports. See function table for normal-mode logic.", 7 1A8 (io) "Normal-function A-bus I/O ports. See function table for normal-mode logic.", 8 1A9 (io) "Normal-function A-bus I/O ports. See function table for normal-mode logic.", 42 1B9 (io) "Normal-function B-bus I/O ports. See function table for normal-mode logic.", 43 1B8 (io) "Normal-function B-bus I/O ports. See function table for normal-mode logic.", 44 1B7 (io) "Normal-function B-bus I/O ports. See function table for normal-mode logic.", 46 1B6 (io) "Normal-function B-bus I/O ports. See function table for normal-mode logic.", 47 1B5 (io) "Normal-function B-bus I/O ports. See function table for normal-mode logic.", 48 1B4 (io) "Normal-function B-bus I/O ports. See function table for normal-mode logic.", 49 1B3 (io) "Normal-function B-bus I/O ports. See function table for normal-mode logic.", 50 1B2 (io) "Normal-function B-bus I/O ports. See function table for normal-mode logic.", 51 1B1 (io) "Normal-function B-bus I/O ports. See function table for normal-mode logic.", 53 1~{OEBA} (in) "Normal-function output enables. See function table for normal-mode logic. An internal pullup at each terminal forces the terminal to a high level if left unconnected.", 54 1LEBA (in) "Normal-function latch enables. See function table for normal-mode logic.", 55 1CLKBA (in) "Normal-function clock inputs. See function table for normal-mode logic.", 59 1CLKAB (in) "Normal-function clock inputs. See function table for normal-mode logic.", 60 1LEAB (in) "Normal-function latch enables. See function table for normal-mode logic.", 62 1~{OEAB} (in) "Normal-function output enables. See function table for normal-mode logic. An internal pullup at each terminal forces the terminal to a high level if left unconnected.", 63 1A1 (io) "Normal-function A-bus I/O ports. See function table for normal-mode logic.", 64 1A2 (io) "Normal-function A-bus I/O ports. See function table for normal-mode logic."
part B pins: 10 2A1 (io) "Normal-function A-bus I/O ports. See function table for normal-mode logic.", 11 2A2 (io) "Normal-function A-bus I/O ports. See function table for normal-mode logic.", 12 2A3 (io) "Normal-function A-bus I/O ports. See function table for normal-mode logic.", 14 2A4 (io) "Normal-function A-bus I/O ports. See function table for normal-mode logic.", 15 2A5 (io) "Normal-function A-bus I/O ports. See function table for normal-mode logic.", 16 2A6 (io) "Normal-function A-bus I/O ports. See function table for normal-mode logic.", 17 2A7 (io) "Normal-function A-bus I/O ports. See function table for normal-mode logic.", 18 2A8 (io) "Normal-function A-bus I/O ports. See function table for normal-mode logic.", 19 2A9 (io) "Normal-function A-bus I/O ports. See function table for normal-mode logic.", 21 2~{OEAB} (in) "Normal-function output enables. See function table for normal-mode logic. An internal pullup at each terminal forces the terminal to a high level if left unconnected.", 22 2LEAB (in) "Normal-function latch enables. See function table for normal-mode logic.", 23 2CLKAB (in) "Normal-function clock inputs. See function table for normal-mode logic.", 27 2CLKBA (in) "Normal-function clock inputs. See function table for normal-mode logic.", 28 2LEBA (in) "Normal-function latch enables. See function table for normal-mode logic.", 30 2~{OEBA} (in) "Normal-function output enables. See function table for normal-mode logic. An internal pullup at each terminal forces the terminal to a high level if left unconnected.", 31 2B9 (io) "Normal-function B-bus I/O ports. See function table for normal-mode logic.", 32 2B8 (io) "Normal-function B-bus I/O ports. See function table for normal-mode logic.", 33 2B7 (io) "Normal-function B-bus I/O ports. See function table for normal-mode logic.", 34 2B6 (io) "Normal-function B-bus I/O ports. See function table for normal-mode logic.", 35 2B5 (io) "Normal-function B-bus I/O ports. See function table for normal-mode logic.", 37 2B4 (io) "Normal-function B-bus I/O ports. See function table for normal-mode logic.", 38 2B3 (io) "Normal-function B-bus I/O ports. See function table for normal-mode logic.", 39 2B2 (io) "Normal-function B-bus I/O ports. See function table for normal-mode logic.", 40 2B1 (io) "Normal-function B-bus I/O ports. See function table for normal-mode logic."
part C pins: 24 TDI (in) "Test data input. One of four terminals required by IEEE Standard 1149.1-1990. TDI is the serial input for shifting data through the instruction register or selected data register. An internal pullup forces TDI to a high (See Datasheet)", 26 TCK (in) "Test clock. One of four terminals required by IEEE Standard 1149.1-1990. Test operations of the device are synchronous to TCK. Data is captured on the rising edge of TCK and outputs change on the falling edge of TCK.", 56 TMS (in) "Test mode select. One of four terminals required by IEEE Standard 1149.1-1990. TMS directs the device through its TAP controller states. An internal pullup forces TMS to a high level if left unconnected.", 58 TDO (hiz) "Test data output. One of four terminals required by IEEE Standard 1149.1-1990. TDO is the serial output for shifting data through the instruction register or selected data register."
part D pins: 4 GND (power) "Ground", 9 VCC (power) "Supply voltage", 13 GND (power) "Ground", 20 GND (power) "Ground", 25 VCC (power) "Supply voltage", 29 GND (power) "Ground", 36 GND (power) "Ground", 41 VCC (power) "Supply voltage", 45 GND (power) "Ground", 52 GND (power) "Ground", 57 VCC (power) "Supply voltage", 61 GND (power) "Ground"

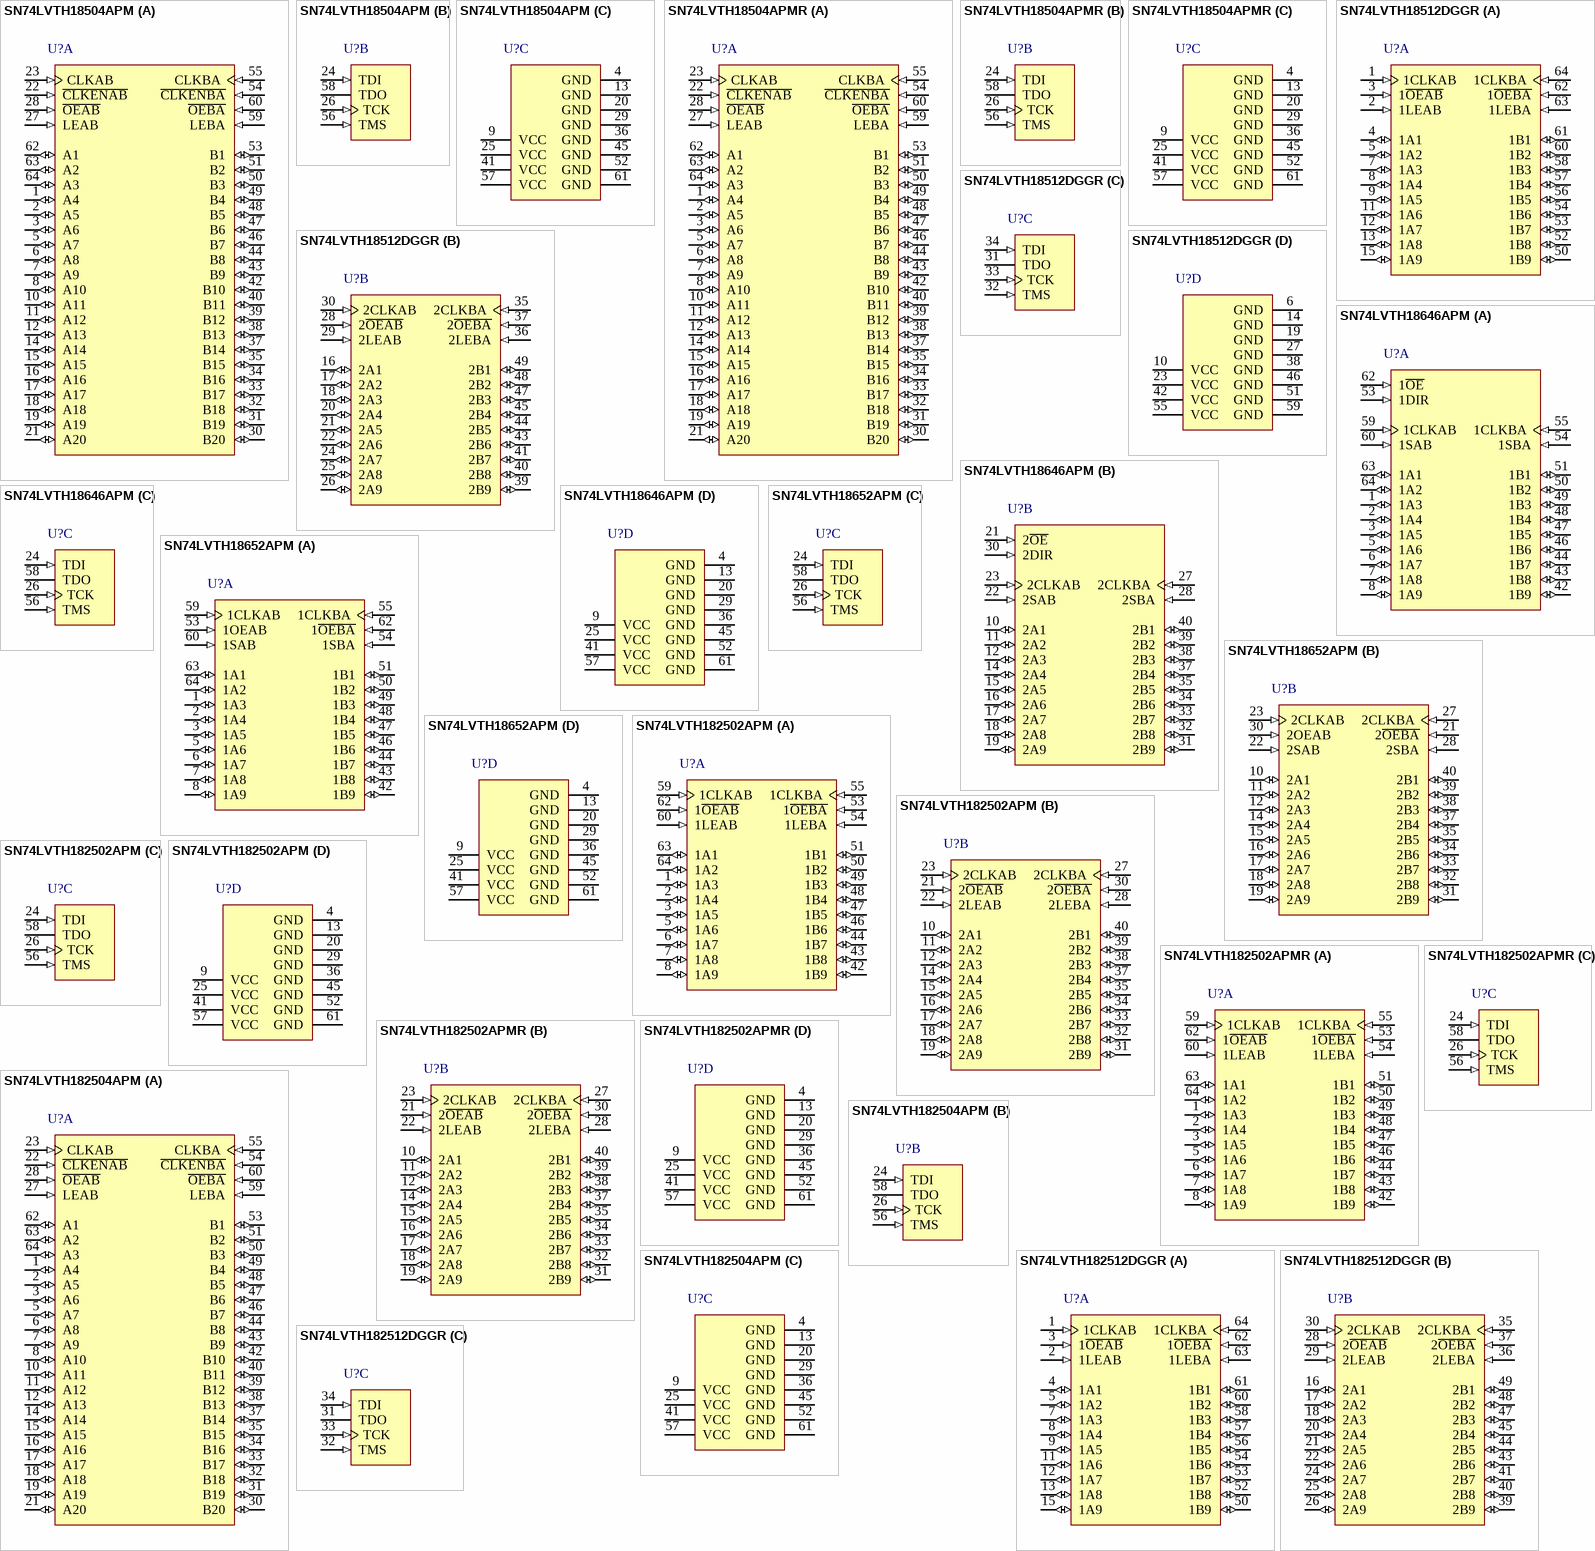
[diagram p83: symbols SN74LVTH18504APM to SN74LVTH182512DGGR]